# Altium footprint library SOP63P599X175-16N.PcbLib: 1 footprints
Each footprint in its own frame and in the unit in brackets; x right, y up, seen from the top. Pads: shape width x height; smd on the part's side, far side on the other; paste and mask are expansions set on the pad; w line width, h text height; cw(c..) or ccw(c..) is an arc to the next point about the centre after c.
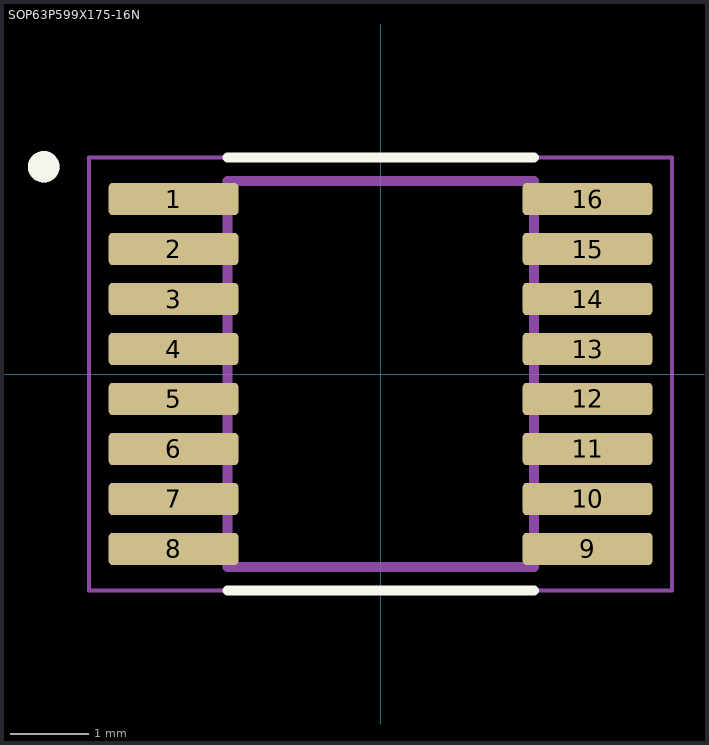
[diagram p0: the footprint, top view; thin cyan lines are the x and y axes]

## SOP63P599X175-16N [mm]
pads (16):
  rrect25% 1.65x0.41 smd: 1(-2.63,2.222) 2(-2.63,1.587) 3(-2.63,0.953) 4(-2.63,0.318) 5(-2.63,-0.318) 6(-2.63,-0.953) 7(-2.63,-1.587) 8(-2.63,-2.222) 9(2.63,-2.222) 10(2.63,-1.587) 11(2.63,-0.953) 12(2.63,-0.318) 13(2.63,0.318) 14(2.63,0.953) 15(2.63,1.587) 16(2.63,2.222)
Top Overlay:
  circle w0.2: c-4.28,2.632 r0.1
  lines w0.127: -1.947,-2.748 1.947,-2.748 ; -1.947,2.748 1.947,2.748
Mechanical 13:
  circle w0.2: c-4.28,2.632 r0.1
  lines w0.127: -1.947,-2.452 1.947,-2.452 1.947,2.452 -1.947,2.452 -1.947,-2.452
Mechanical 15:
  lines w0.05: -3.705,-2.75 3.705,-2.75 3.705,2.75 -3.705,2.75 -3.705,-2.75